# EAGLE library part MIC23050 (library Shiftbly-PowerIC)
4MHz PWM Buck Regulator.
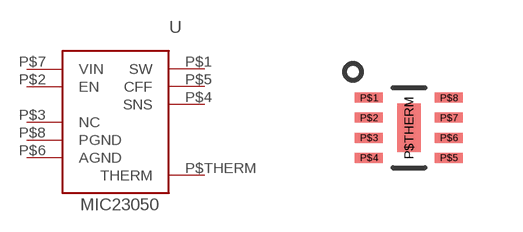
[diagram p0: symbol with the pads of 8-MLF_2X2; footprint 8-MLF_2X2]

Designator prefix -

## MIC23050  [8-MLF_2X2]
P$1  SW
P$2  EN
P$3  NC
P$4  SNS
P$5  CFF
P$6  AGND
P$7  VIN
P$8  PGND
P$THERM  THERM

## Footprint 8-MLF_2X2 (pad centres in mm)
smd 0.7 x 0.25: P$1 -1,0.75; P$2 -1,0.25; P$3 -1,-0.25; P$4 -1,-0.75; P$5 1,-0.75; P$6 1,-0.25; P$7 1,0.25; P$8 1,0.75
smd 0.6 x 1.2: P$THERM 0,0